# Altium footprint library IPEX_Antenna.PcbLib: 1 footprints
Each footprint in its own frame and in the unit in brackets; x right, y up, seen from the top. Pads: shape width x height; smd on the part's side, far side on the other; paste and mask are expansions set on the pad; w line width, h text height; cw(c..) or ccw(c..) is an arc to the next point about the centre after c.
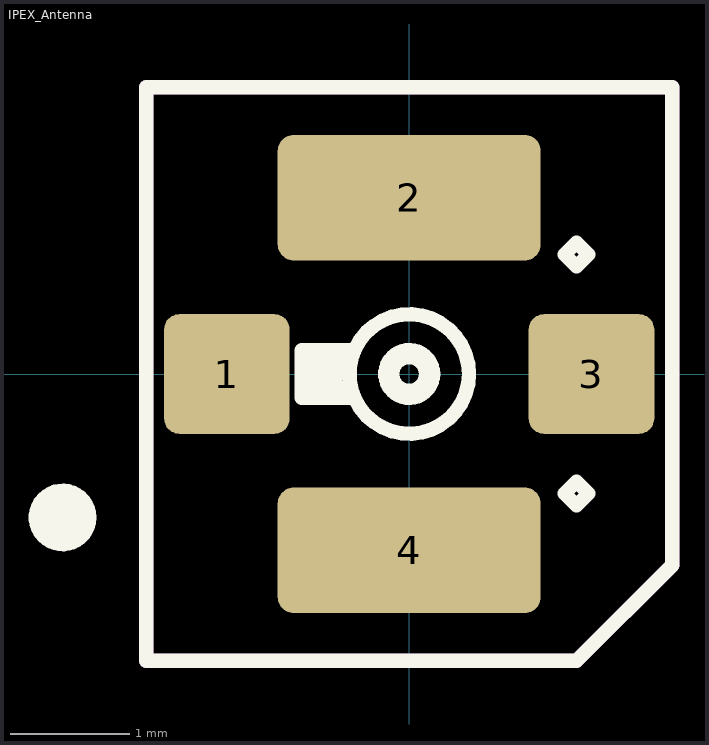
[diagram p0: the footprint, top view; thin cyan lines are the x and y axes]

## IPEX_Antenna [mm]
pads (4):
  rrect25% 1.05x1 smd paste+0 mask+0.102: 1(-1.525,0) 3(1.525,0)
  rrect25% 2.2x1.05 smd paste+0 mask+0.102: 2(0,1.475) 4(0,-1.475)
Top Overlay:
  circle w0.12: c-2.9,-1.2 r0.224
  circle w0.12: c0,0 r0.2
  circle w0.12: c0,0 r0.5
  circle w0.12: c0,0 r0.141
  circle w0.2: c-2.9,-1.2 r0.1
  circle w0.12: c-2.9,-1.2 r0.1
  lines w0.12: -0.7,0.2 -0.8,0.1 -0.8,-0.2 -0.6,0.2 -0.7,-0.2 -0.5,0.2 ; -0.9,0.2 -0.5,-0.2 ; -0.9,0.2 -0.5,0.2 ; -0.9,0.2 -0.9,-0.2 -0.5,-0.2 ; -0.5,-0.2 -0.5,0.2 ; -0.5,-0.2 -0.5,0.2 ; -2.2,-2.4 1.4,-2.4 2.2,-1.6 2.2,2.4 -2.2,2.4 -2.2,-2.4 ; 1.3,-1 1.4,-1.1 1.5,-1 1.4,-0.9 1.3,-1 ; 1.3,1 1.4,0.9 1.5,1 1.4,1.1 1.3,1
Mechanical 1:
  lines w0.12: -2.2,-2.4 1.4,-2.4 2.2,-1.6 2.2,2.4 -2.2,2.4 -2.2,-2.4
  text ".Designator" at 0,0.188 h1
Top Courtyard:
  text "+" at -0.666,-1 h2
3D body "ipex_pcb.step": height 1.25, standoff 0, extent -1.55,-1.5 1.55,1.5